# EAGLE library part HEADER-8P-2R-DIP-2_0MM (library SamacSys_Parts)
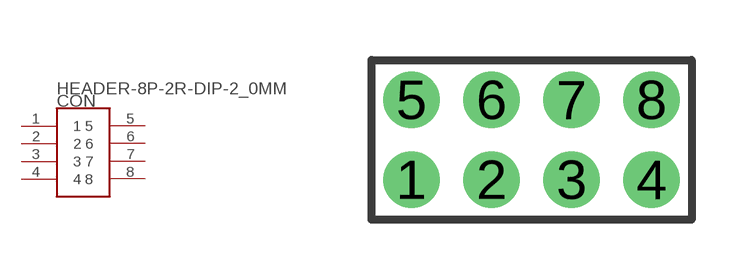
[diagram p11: symbol with the pads of HEADER-8P-2R-DIP-2_0MM; footprint HEADER-8P-2R-DIP-2_0MM]

Designator prefix CON

## HEADER-8P-2R-DIP-2_0MM  [HEADER-8P-2R-DIP-2_0MM]
1  1
2  2
3  3
4  4
5  5
6  6
7  7
8  8

## Footprint HEADER-8P-2R-DIP-2_0MM (pad centres in mm)
drill 0.9: 1 -3,-1; 2 -1,-1; 3 1,-1; 4 3,-1; 5 -3,1; 6 -1,1; 7 1,1; 8 3,1